# Altium footprint library DIP16.PcbLib: 1 footprints
Each footprint in its own frame and in the unit in brackets; x right, y up, seen from the top. Pads: shape width x height; smd on the part's side, far side on the other; paste and mask are expansions set on the pad; w line width, h text height; cw(c..) or ccw(c..) is an arc to the next point about the centre after c.
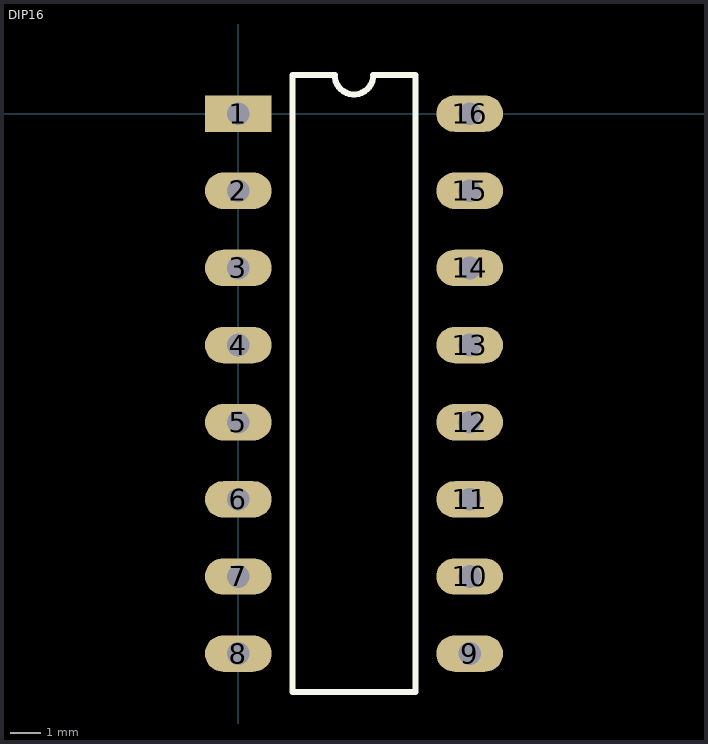
[diagram p0: the footprint, top view; thin cyan lines are the x and y axes]

## DIP16 [mm]
pads (16):
  rect 2.2x1.2 hole 0.75: 1(0,0)
  oval 2.2x1.2 hole 0.75: 2(0,-2.54) 3(0,-5.08) 4(0,-7.62) 5(0,-10.16) 6(0,-12.7) 7(0,-15.24) 8(0,-17.78) 9(7.62,-17.78) 10(7.62,-15.24) 11(7.62,-12.7) 12(7.62,-10.16) 13(7.62,-7.62) 14(7.62,-5.08) 15(7.62,-2.54) 16(7.62,0)
Top Overlay:
  lines w0.2: 1.778,-19.05 1.778,1.27 3.175,1.27 ccw(c3.81,1.27) 4.445,1.27 5.842,1.27 5.842,-19.05 1.778,-19.05
3D body "IC_16P.stp": height 4.05, standoff -3.13, extent -0.123,-19.05 7.747,1.27